# Altium footprint library MSOP.PCBLIB: 2 footprints
Each footprint in its own frame and in the unit in brackets; x right, y up, seen from the top. Pads: shape width x height; smd on the part's side, far side on the other; paste and mask are expansions set on the pad; w line width, h text height; cw(c..) or ccw(c..) is an arc to the next point about the centre after c.
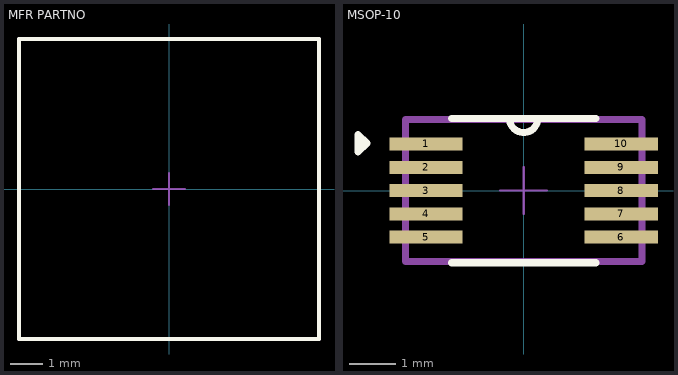
[diagram p0: the footprints below, top view; thin cyan lines are the x and y axes]

## MFR PARTNO [mil] "记得设置高度"
Top Overlay:
  lines w5: -185.04,-185.04 -185.04,185.04 185.04,185.04 185.04,-185.04 -185.04,-185.04
Top 元件外形:
  lines w5: -185.04,-185.04 185.04,-185.04 185.04,185.04 -185.04,185.04 -185.04,-185.04
Top 中心点:
  lines w2: -19.68,0 19.68,0 ; 0,-19.68 0,19.68

## MSOP-10 [mil]
pads (10):
  rect 62x11 smd paste-99999: 1(-82.5,39.37) 2(-82.5,19.68) 3(-82.5,0) 4(-82.5,-19.68) 5(-82.5,-39.37) 6(82.5,-39.37) 7(82.5,-19.68) 8(82.5,0) 9(82.5,19.68) 10(82.5,39.37)
Top Overlay:
  lines w6: -140,40 -132.5,40 ; -61,-61 61,-61 ; -61,61 61,61 ; -12,61 ccw(c0,61) 12,61 ; -132.5,40 -140,32.5 -140,47.5 -132.5,40
Top 元件外形:
  lines w6: -100,-60 100,-60 100,60 -100,60 -100,-60
Top 中心点:
  lines w2: -19.68,0 19.68,0 ; 0,-19.68 0,19.68
3D body "DGS10.step": height 43.11, standoff 0, extent -99.49,-60.98 99.49,60.98